# Altium schematic symbol library 2019-06-30_11-57-30.SchLib: 2 symbols
Pins are listed as number, name and electrical type; pins without a type are passive.

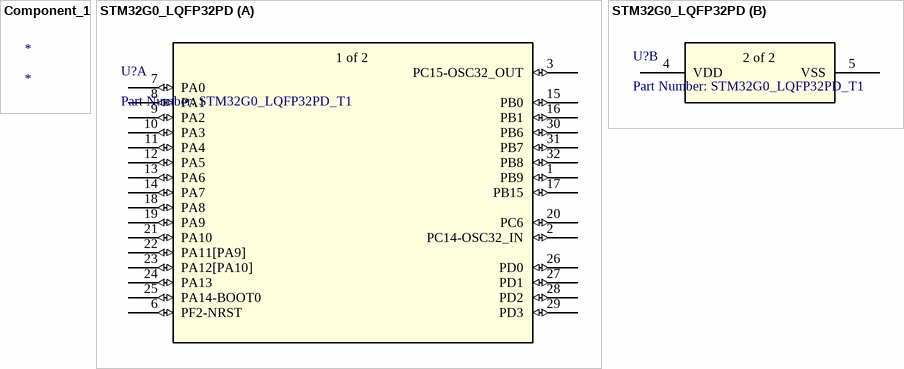
[diagram p0: symbols Component_1 to STM32G0_LQFP32PD]

## Component_1
designator *

## STM32G0_LQFP32PD
designator U?, comment Part Number: STM32G0_LQFP32PD_T1
No Description Available; Built_By: EMA_Jessica; Vendor: STMicroelectronics; Copyright: Copyright (C) 2016 Accelerated Designs. All rights reserved; Manufacturer_Part_Number: STM32G0_LQFP32PD_T1; RefDes: RefDes; Type: DEV; Value: Value
footprint LQFP-32
part A pins: 1 PB9 (io), 2 PC14-OSC32_IN (io), 3 PC15-OSC32_OUT (io), 6 PF2-NRST (io), 7 PA0 (io), 8 PA1 (io), 9 PA2 (io), 10 PA3 (io), 11 PA4 (io), 12 PA5 (io), 13 PA6 (io), 14 PA7 (io), 15 PB0 (io), 16 PB1 (io), 17 PB15 (io), 18 PA8 (io), 19 PA9 (io), 20 PC6 (io), 21 PA10 (io), 22 PA11[PA9] (io), 23 PA12[PA10] (io), 24 PA13 (io), 25 PA14-BOOT0 (io), 26 PD0 (io), 27 PD1 (io), 28 PD2 (io), 29 PD3 (io), 30 PB6 (io), 31 PB7 (io), 32 PB8 (io)
part B pins: 4 VDD (power), 5 VSS (power)
part A text: 1 of 2
part B text: 2 of 2